# EAGLE library part CSS-2314D (library mylib)
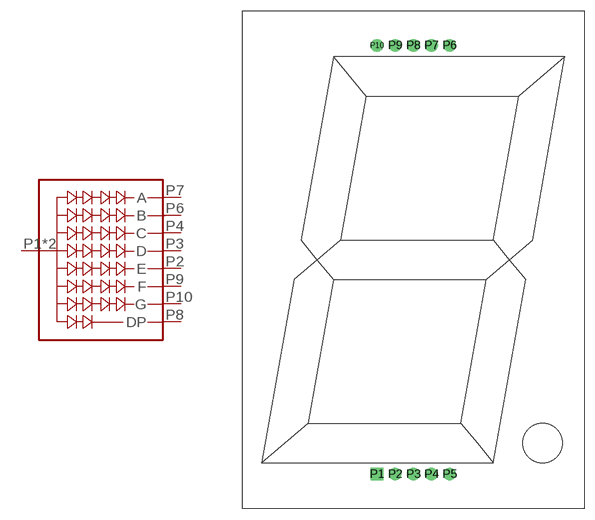
[diagram p6: symbol with the pads of CSS-2314D; footprint CSS-2314D]

Designator prefix -

## CSS-2314D  [CSS-2314D]
P1  ANODE
P2  E
P3  D
P4  C
P5  ANODE
P6  B
P7  A
P8  DP
P9  F
P10  G

## Footprint CSS-2314D (pad centres in mm)
drill 0.9 pad 1.778 square: P1 -5.08,-30
drill 0.9 pad 1.778: P2 -2.54,-30; P3 0,-30; P4 2.54,-30; P5 5.08,-30; P6 5.08,30; P7 2.54,30; P8 0,30; P9 -2.54,30; P10 -5.08,30